# Altium footprint library D2PAK.PcbLib: 1 footprints
Each footprint in its own frame and in the unit in brackets; x right, y up, seen from the top. Pads: shape width x height; smd on the part's side, far side on the other; paste and mask are expansions set on the pad; w line width, h text height; cw(c..) or ccw(c..) is an arc to the next point about the centre after c.
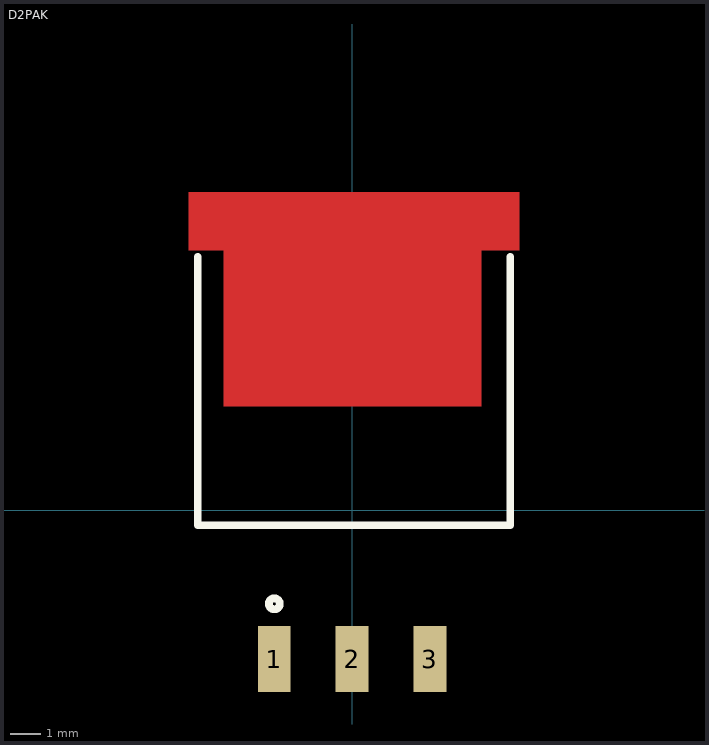
[diagram p0: the footprint, top view; thin cyan lines are the x and y axes]

## D2PAK [mm] "D2PAK"
pads (3):
  rect 1.07x2.16 smd: 1(-2.54,-4.851) 2(0,-4.851) 3(2.54,-4.851)
Top Layer:
  region: -4.191,8.478 -4.191,3.398 4.226,3.398 4.226,8.478
  region: -5.339,10.389 -5.339,8.479 5.461,8.479 5.461,10.389
Top Overlay:
  circle w0.254: c-2.54,-3.048 r0.18
  lines w0.254: -5.039,8.275 -5.039,-0.482 5.161,-0.482 5.161,8.275
Bottom Solder:
  region: -5.339,10.389 -5.339,8.484 5.461,8.484 5.461,10.389
  region: -4.191,8.484 -4.191,3.404 4.242,3.404 4.242,8.484